# Altium footprint library LTC6810.PcbLib: 2 footprints
Each footprint in its own frame and in the unit in brackets; x right, y up, seen from the top. Pads: shape width x height; smd on the part's side, far side on the other; paste and mask are expansions set on the pad; w line width, h text height; cw(c..) or ccw(c..) is an arc to the next point about the centre after c.
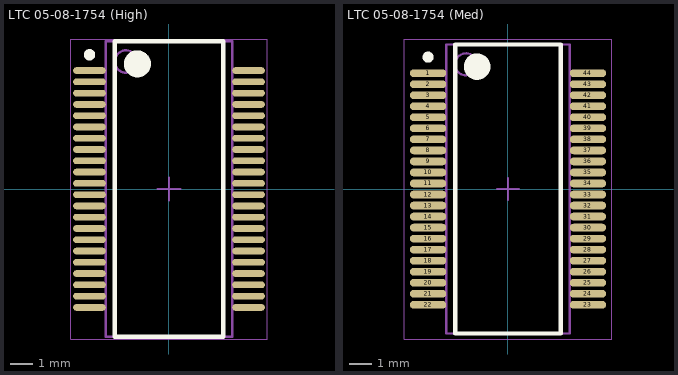
[diagram p0: the footprints below, top view; thin cyan lines are the x and y axes]

## LTC 05-08-1754 (High) [mm] "LinearTechnology's G Package 44-Lead Plastic SSOP"
height 2
pads (44):
  oval 1.45x0.3 smd: 1(-3.525,5.25) 2(-3.525,4.75) 3(-3.525,4.25) 4(-3.525,3.75) 5(-3.525,3.25) 6(-3.525,2.75) 7(-3.525,2.25) 8(-3.525,1.75) 9(-3.525,1.25) 10(-3.525,0.75) 11(-3.525,0.25) 12(-3.525,-0.25) 13(-3.525,-0.75) 14(-3.525,-1.25) 15(-3.525,-1.75) 16(-3.525,-2.25) 17(-3.525,-2.75) 18(-3.525,-3.25) 19(-3.525,-3.75) 20(-3.525,-4.25) 21(-3.525,-4.75) 22(-3.525,-5.25) 23(3.525,-5.25) 24(3.525,-4.75) 25(3.525,-4.25) 26(3.525,-3.75) 27(3.525,-3.25) 28(3.525,-2.75) 29(3.525,-2.25) 30(3.525,-1.75) 31(3.525,-1.25) 32(3.525,-0.75) 33(3.525,-0.25) 34(3.525,0.25) 35(3.525,0.75) 36(3.525,1.25) 37(3.525,1.75) 38(3.525,2.25) 39(3.525,2.75) 40(3.525,3.25) 41(3.525,3.75) 42(3.525,4.25) 43(3.525,4.75) 44(3.525,5.25)
Top Overlay:
  circle w0.25: c-3.525,5.95 r0.125
  circle w0.6: c-1.4,5.55 r0.3
  lines w0.2: -2.4,-6.55 -2.4,6.55 2.4,6.55 2.4,-6.55 -2.4,-6.55
Mechanical 13:
  circle w0.1: c-1.9,5.65 r0.5
  lines w0.1: -2.8,-6.55 -2.8,6.55 2.8,6.55 2.8,-6.55 -2.8,-6.55
Mechanical 15:
  lines w0.05: -4.35,-6.65 -4.35,6.65 4.35,6.65 4.35,-6.65 -4.35,-6.65
  lines w0.1: -0.5,0 0.5,0 ; 0,-0.5 0,0.5
3D body "SSOP50P780X200-44L.step": height 2, standoff 0, extent -3.9,-6.55 3.9,6.55

## LTC 05-08-1754 (Med) [mm] "LinearTechnology's G Package 44-Lead Plastic SSOP"
height 2
pads (44):
  oval 1.65x0.35 smd: 1(-3.625,5.25) 2(-3.625,4.75) 3(-3.625,4.25) 4(-3.625,3.75) 5(-3.625,3.25) 6(-3.625,2.75) 7(-3.625,2.25) 8(-3.625,1.75) 9(-3.625,1.25) 10(-3.625,0.75) 11(-3.625,0.25) 12(-3.625,-0.25) 13(-3.625,-0.75) 14(-3.625,-1.25) 15(-3.625,-1.75) 16(-3.625,-2.25) 17(-3.625,-2.75) 18(-3.625,-3.25) 19(-3.625,-3.75) 20(-3.625,-4.25) 21(-3.625,-4.75) 22(-3.625,-5.25) 23(3.625,-5.25) 24(3.625,-4.75) 25(3.625,-4.25) 26(3.625,-3.75) 27(3.625,-3.25) 28(3.625,-2.75) 29(3.625,-2.25) 30(3.625,-1.75) 31(3.625,-1.25) 32(3.625,-0.75) 33(3.625,-0.25) 34(3.625,0.25) 35(3.625,0.75) 36(3.625,1.25) 37(3.625,1.75) 38(3.625,2.25) 39(3.625,2.75) 40(3.625,3.25) 41(3.625,3.75) 42(3.625,4.25) 43(3.625,4.75) 44(3.625,5.25)
Top Overlay:
  circle w0.6: c-1.4,5.55 r0.3
  circle w0.25: c-3.625,5.975 r0.125
  lines w0.2: -2.4,-6.55 2.4,-6.55 2.4,6.55 -2.4,6.55 -2.4,-6.55
Mechanical 13:
  circle w0.1: c-1.9,5.65 r0.5
  lines w0.1: -2.8,-6.55 2.8,-6.55 2.8,6.55 -2.8,6.55 -2.8,-6.55
Mechanical 15:
  lines w0.05: -4.7,-6.8 4.7,-6.8 4.7,6.8 -4.7,6.8 -4.7,-6.8
  lines w0.1: -0.5,0 0.5,0 ; 0,-0.5 0,0.5
3D body "LTC 05-08-1754.step": height 2, standoff 0, extent -3.9,-6.55 3.9,6.55